# Altium schematic symbol library PIC24F16KA101.SchLib: 1 symbol
Pins are listed as number, name and electrical type; pins without a type are passive.

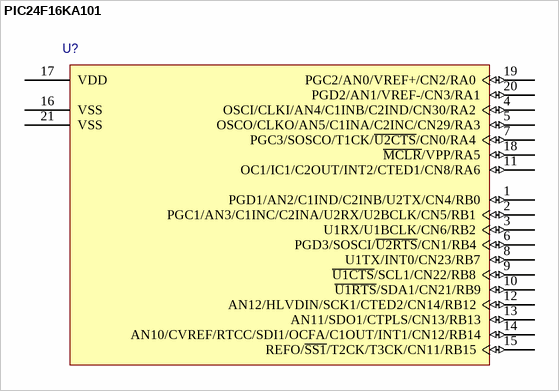
[diagram p0: symbol PIC24F16KA101]

## PIC24F16KA101
designator U?  (value not drawn)
pins: 1 PGD1/AN2/C1IND/C2INB/U2TX/CN4/RB0 (io), 2 PGC1/AN3/C1INC/C2INA/U2RX/U2BCLK/CN5/RB1 (io), 3 U1RX/U1BCLK/CN6/RB2 (io), 4 OSCI/CLKI/AN4/C1INB/C2IND/CN30/RA2 (io), 5 OSCO/CLKO/AN5/C1INA/C2INC/CN29/RA3 (io), 6 PGD3/SOSCI/~{U2RTS}/CN1/RB4 (io), 7 PGC3/SOSCO/T1CK/~{U2CTS}/CN0/RA4 (io), 8 U1TX/INT0/CN23/RB7 (io), 9 ~{U1CTS}/SCL1/CN22/RB8 (io), 10 ~{U1RTS}/SDA1/CN21/RB9 (io), 11 OC1/IC1/C2OUT/INT2/CTED1/CN8/RA6 (io), 12 AN12/HLVDIN/SCK1/CTED2/CN14/RB12 (io), 13 AN11/SDO1/CTPLS/CN13/RB13 (io), 14 AN10/CVREF/RTCC/SDI1/OCFA/C1OUT/INT1/CN12/RB14 (io), 15 REFO/~{SS1}/T2CK/T3CK/CN11/RB15 (io), 16 VSS (power), 17 VDD (power), 18 ~{MCLR}/VPP/RA5 (io), 19 PGC2/AN0/VREF+/CN2/RA0 (io), 20 PGD2/AN1/VREF-/CN3/RA1 (io), 21 VSS (power)
1 alternate drawing of the same symbol